# Altium footprint library MaryLab Projets.PcbLib: 43 footprints (part 2 of 3)
Each footprint in its own frame and in the unit in brackets; x right, y up, seen from the top. Pads: shape width x height; smd on the part's side, far side on the other; paste and mask are expansions set on the pad; w line width, h text height; cw(c..) or ccw(c..) is an arc to the next point about the centre after c.
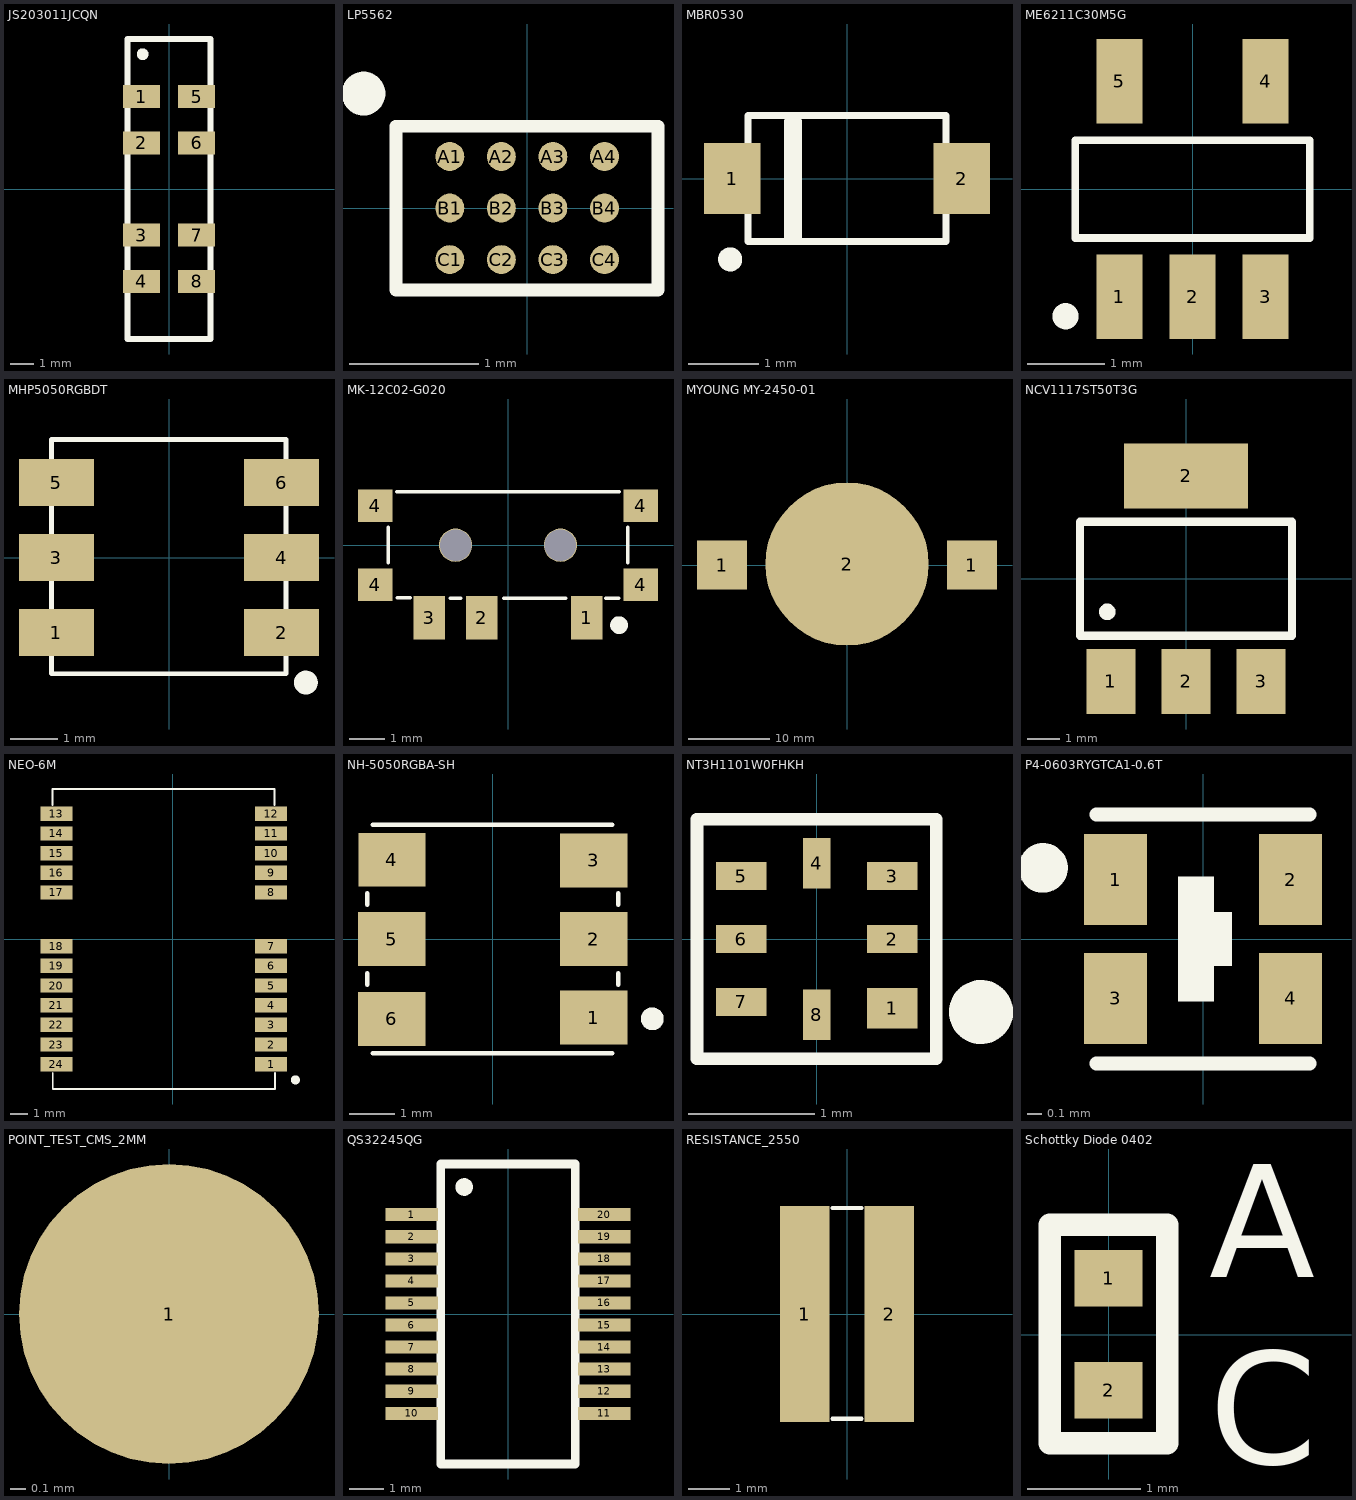
[diagram p1: the footprints below, top view; thin cyan lines are the x and y axes]

## JS203011JCQN [mm] "SWITCH SLIDE DP3T 300MA 6V"
pads (8):
  rect 1.6x1 smd: 1(-1.2,4) 2(-1.2,2) 3(-1.2,-2) 4(-1.2,-4) 5(1.2,4) 6(1.2,2) 7(1.2,-2) 8(1.2,-4)
Top Overlay:
  circle w0.254: c-1.143,5.842 r0.127
  lines w0.254: -1.8,-6.5 -1.8,6.5 1.8,6.5 1.8,-6.5 -1.8,-6.5
3D body "JS203011JCQN.stp": height 5.62, standoff 0.02, extent -1.673,-6.5 1.927,6.5

## LP5562 [mm] "Four-Channel RGB- or White-LED Driver With Internal Program Memory  and Independent Channel Control"
pads (12):
  round 0.225 smd mask+0.075: A1(-0.6,0.4) A2(-0.2,0.4) A3(0.2,0.4) A4(0.6,0.4) B1(-0.6,0) B2(-0.2,0) B3(0.2,0) B4(0.6,0) C1(-0.6,-0.4) C2(-0.2,-0.4) C3(0.2,-0.4) C4(0.6,-0.4)
Top Overlay:
  circle w0.254: c-1.27,0.889 r0.042
  lines w0.1: -1.016,-0.635 -1.016,0.635 1.016,0.635 1.016,-0.635 -1.016,-0.635
3D body "BGA12NP40_3X4_129X199X62B25.step": height 0.63, standoff 0, extent -0.995,-0.645 0.995,0.645

## MBR0530 [mm] "30V 550mV@500mA 500mA SOD-123 Schottky Barrier Diodes (SBD) ROHS"
pads (2):
  rect 0.8x1 smd: 1(-1.62,0) 2(1.62,0)
Top Overlay:
  circle w0.254: c-1.651,-1.143 r0.042
  lines w0.1: -1.397,-0.889 1.397,-0.889 1.397,0.889 -1.397,0.889 -1.397,-0.889
  lines w0.25: -0.762,-0.809 -0.762,0.798
3D body "SOD-123.step": height 1.36, standoff 0, extent -1.925,-0.85 1.925,0.85

## ME6211C30M5G [mm] "LDO 3V3 500mA SOT-23-5"
pads (5):
  rect 0.6x1.1 smd: 1(-0.95,-1.397) 2(0,-1.397) 3(0.95,-1.397) 4(0.95,1.403) 5(-0.95,1.403)
Top Overlay:
  circle w0.254: c-1.651,-1.651 r0.042
  lines w0.1: -1.524,-0.635 -1.524,0.635 1.524,0.635 1.524,-0.635 -1.524,-0.635
3D body "SOT23_5.stp": height 0.92, standoff 0.01, extent -1.508,-1.573 1.492,1.631

## MHP5050RGBDT [mm] "White Diffused -40?~+85? RGB SMD5050 Light Emitting Diodes (LED) ROHS"
pads (6):
  rect 1.6x1 smd: 1(-2.4,-1.6) 2(2.4,-1.6) 3(-2.4,0) 4(2.4,0) 5(-2.4,1.6) 6(2.4,1.6)
Top Overlay:
  circle w0.254: c2.921,-2.667 r0.127
  lines w0.1: -2.505,-2.481 -2.505,2.519 2.495,2.519 2.495,-2.481 -2.505,-2.481
3D body "NH-5050RGBA-SH (LED RGB).step": height 1.5, standoff -0.01, extent -2.71,-2.5 2.71,2.5

## MK-12C02-G020 [mm] "Surface Mount 1A SPDT 6V"
pads (9):
  rect 0.9x1.25 smd: 1(2.25,-2.075) 2(-0.75,-2.075) 3(-2.25,-2.075)
  rect 0.98x0.93 smd: 4(-3.8,-1.135) 4(-3.8,1.135) 4(3.8,-1.135) 4(3.8,1.135)
  round 0.95 hole 0.9: ""(-1.5,0) ""(1.5,0)
Top Overlay:
  circle w0.254: c3.175,-2.286 r0.127
  lines w0.1: -3.429,-0.506 -3.429,0.508 ; -3.175,1.524 3.175,1.524 ; -3.17,-1.507 -2.791,-1.507 ; -1.651,-1.524 -1.352,-1.523 ; -0.127,-1.524 1.651,-1.524 ; 2.794,-1.524 3.173,-1.524 ; 3.429,-0.506 3.429,0.508
3D body "Selector Switch - MSK1103.stp": height 1.42, standoff -0.58, extent -4.027,-2.344 3.949,3.843

## MYOUNG MY-2450-01 [mm] "Battery button CR2450 SMD Battery Connectors ROHS"
pads (3):
  rect 6.15x6 smd: 1(-15.325,0) 1(15.325,0)
  round 20 smd: 2(0,0.127)
3D body "BK-877.STEP": height 5.84, standoff 0, extent -17.78,-12.7 17.78,12.7

## NCV1117ST50T3G [mm] "IC REG LINEAR 5V 1A SOT223"
pads (4):
  rect 1.5x2 smd: 1(-2.3,-3.15) 2(0,-3.15) 3(2.3,-3.15)
  rect 3.8x2 smd: 2(0,3.15)
Top Overlay:
  circle w0.254: c-2.413,-1.016 r0.127
  lines w0.254: -3.25,-1.75 -3.25,1.75 3.25,1.75 3.25,-1.75 -3.25,-1.75
3D body "SOT223-3.step": height 1.5, standoff -0.1, extent -3.198,-3.537 3.302,3.537

## NEO-6M [mm] "Ublox NEO-6M GPS Module"
pads (24):
  rect 1.8x0.8 smd: 1(5.5,-7) 2(5.5,-5.9) 3(5.5,-4.8) 4(5.5,-3.7) 5(5.5,-2.6) 6(5.5,-1.5) 7(5.5,-0.4) 8(5.5,2.6) 9(5.5,3.7) 10(5.5,4.8) 11(5.5,5.9) 12(5.5,7) 13(-6.5,7) 14(-6.5,5.9) 15(-6.5,4.8) 16(-6.5,3.7) 17(-6.5,2.6) 18(-6.5,-0.4) 19(-6.5,-1.5) 20(-6.5,-2.6) 21(-6.5,-3.7) 22(-6.5,-4.8) 23(-6.5,-5.9) 24(-6.5,-7)
Top Overlay:
  circle w0.254: c6.858,-7.874 r0.127
  lines w0.1: -6.723,7.491 -6.723,8.38 5.692,8.382 ; -6.7,-8.382 5.715,-8.382 5.715,-7.493 ; -6.7,-8.365 -6.7,-7.476 ; 5.692,7.474 5.692,8.363
3D body "NEO-6M-0-001.stp": height 2.67, standoff 0.03, extent -6.658,-8.3 5.642,8.3

## NH-5050RGBA-SH [mm] "SMD5050 LED RGB"
pads (6):
  rect 1.5x1.2 smd: 1(2.25,-1.75) 2(2.25,0) 3(2.25,1.75) 4(-2.243,1.764) 5(-2.25,0) 6(-2.25,-1.778)
Top Overlay:
  circle w0.254: c3.556,-1.778 r0.127
  lines w0.1: -2.794,-1.016 -2.794,-0.762 ; -2.794,0.762 -2.794,1.016 ; -2.667,-2.54 2.667,-2.54 ; -2.667,2.54 2.667,2.54 ; 2.794,-1.016 2.794,-0.762 ; 2.794,0.762 2.794,1.016
3D body "NH-5050RGBA-SH (LED RGB).step": height 1.5, standoff -0.01, extent -2.71,-2.5 2.71,2.5

## NT3H1101W0FHKH [mm] "NTAG I2C - Energy harvesting NFC Forum Type 2 Tag with  field detection pin and I2C interface"
pads (8):
  rect 0.4x0.32 smd: 1(0.6,-0.55)
  rect 0.4x0.22 smd: 2(0.6,0) 3(0.6,0.5) 5(-0.6,0.5) 6(-0.6,0) 7(-0.6,-0.5)
  rect 0.22x0.4 smd: 4(0,0.6) 8(0,-0.6)
Top Overlay:
  circle w0.254: c1.304,-0.58 r0.127
  lines w0.1: -0.95,-0.95 0.95,-0.95 0.95,0.95 -0.95,0.95 -0.95,-0.95
3D body "sot902-2.step": height 0.45, standoff -0.05, extent -0.8,-0.8 0.8,0.8

## P4-0603RYGTCA1-0.6T [mm] "Double LED, colorless transparence -40?~+85? Red, General Green/Yellow-Green 60mW 0603 Light Emitting Diodes (LED) ROHS"
pads (4):
  rect 0.45x0.65 smd: 1(-0.625,0.425) 2(0.625,0.425) 3(-0.625,-0.425) 4(0.625,-0.425)
Top Overlay:
  circle w0.254: c-1.143,0.508 r0.05
  region: -0.177,0.444 -0.177,-0.445 0.077,-0.445 0.077,-0.191 0.204,-0.191 0.204,0.19 0.077,0.19 0.077,0.444
  lines w0.1: -0.762,-0.889 0.762,-0.889 ; -0.762,0.889 0.762,0.889
3D body "osrb0603c1c.stp": height 0.65, standoff -0.01, extent -0.8,-0.8 0.8,0.8

## POINT_TEST_CMS_2MM [mm] "*"
pads (1):
  round 2 smd: 1(0,0)

## QS32245QG [mm] "IC BUS SWITCH 1 X 8:1 20QSOP"
pads (20):
  rect 1.52x0.38 smd: 1(-2.795,2.88) 2(-2.795,2.24) 3(-2.795,1.6) 4(-2.795,0.96) 5(-2.795,0.32) 6(-2.795,-0.32) 7(-2.795,-0.96) 8(-2.795,-1.6) 9(-2.795,-2.24) 10(-2.795,-2.88) 11(2.795,-2.88) 12(2.795,-2.24) 13(2.795,-1.6) 14(2.795,-0.96) 15(2.795,-0.32) 16(2.795,0.32) 17(2.795,0.96) 18(2.795,1.6) 19(2.795,2.24) 20(2.795,2.88)
Top Overlay:
  circle w0.254: c-1.27,3.683 r0.127
  lines w0.254: -1.95,-4.35 1.95,-4.35 1.95,4.35 -1.95,4.35 -1.95,-4.35
3D body "QSOP-20_3.9x8.7mm_P0.635mm.step": height 1.1, standoff 0, extent -3.155,-4.35 3.155,4.35

## RESISTANCE_2550 [mm] "RESISTANCE CMS CURRENT SENSE BOITIER 2550"
pads (2):
  rect 1.2x5.2 smd: 1(-1.016,0) 2(1.016,0)
Top Overlay:
  lines w0.1: -0.348,-2.525 0.35,-2.525 ; -0.348,2.555 0.35,2.555
3D body "RSHUNT_2550.step": height 0.65, standoff -0.03, extent -1.25,-2.5 1.25,2.5

## Schottky Diode 0402 [mm] "RB161QS-40T18R  40V Single 600mV@1A 1A 0402 Schottky Barrier Diodes (SBD) ROHS"
pads (2):
  rect 0.6x0.5 smd: 1(0,0.5) 2(0,-0.49)
Top Overlay:
  lines w0.2: -0.52,-0.96 -0.52,0.97 0.52,0.97 0.52,-0.96 -0.52,-0.96
  text "A" at 0.889,0.508 h1
  text "C" at 0.889,-1.143 h1
3D body "condensateur cms 0402.STEP": height 0.5, standoff 0, extent -0.25,-0.5 0.25,0.5